# Altium schematic symbol library Sensor_Pressure.SchLib: 24 symbols
Pins are listed as number, name and electrical type; pins without a type are passive.

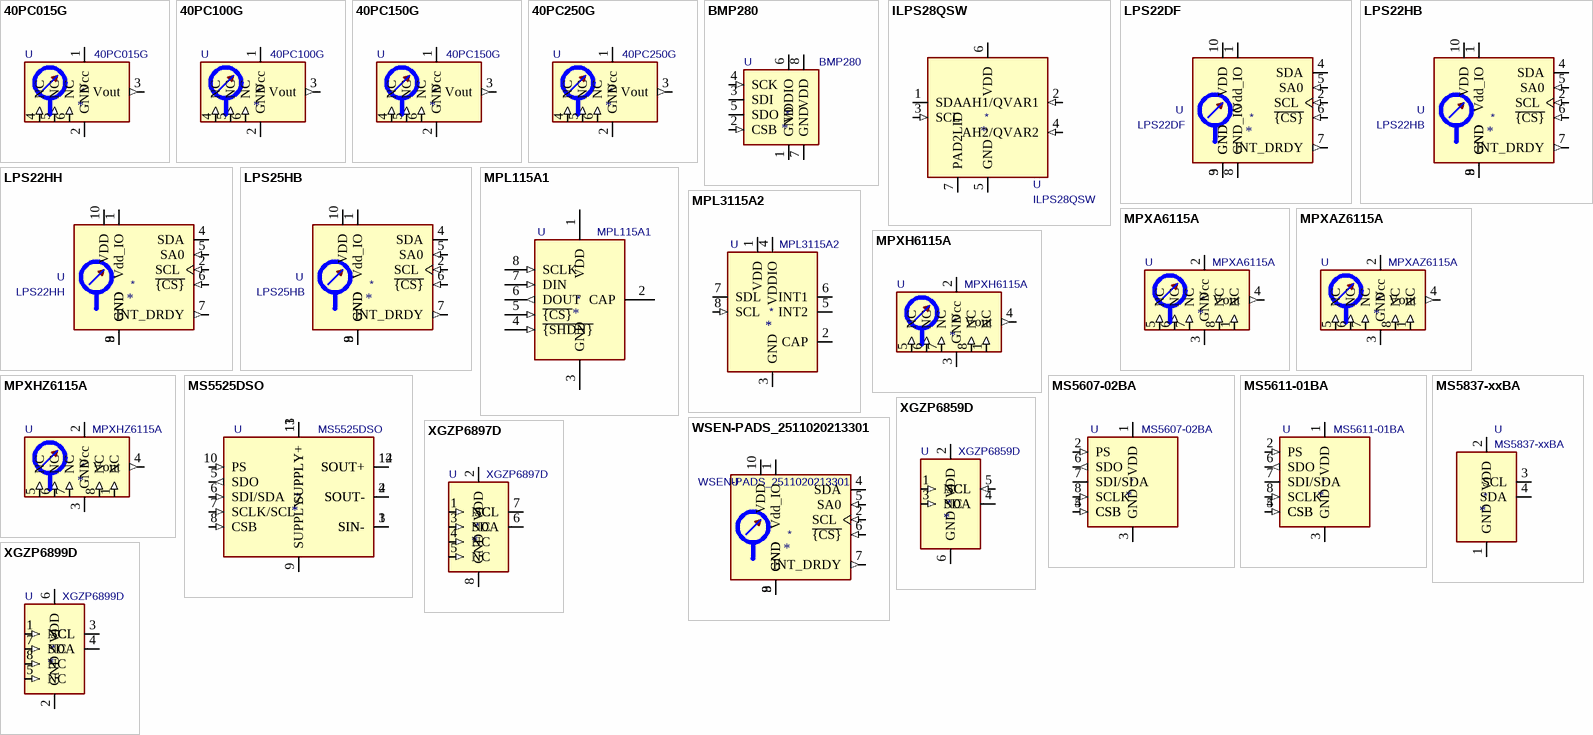
[diagram p0: symbols 40PC015G to XGZP6899D]

## 40PC015G
designator *  value 40PC015G  Reference: U
Gauge pressure sensor, 0 to 15PSI, 5V supply, 0.2% accuracy, integrated signal conditioning, excellent media compatibility; ki_keywords: gage gauge pressure sensor; Datasheet: http://www.honeywellscportal.com//index.php?ci_id=138832; Description_: Gauge pressure sensor, 0 to 15PSI, 5V supply, 0.2% accuracy, integrated signal conditioning, excellent media compatibility
pins: 1 Vcc (power), 2 GND (power), 3 Vout (out), 4 NC (in), 5 NC (in), 6 NC (in)

## 40PC100G
designator *  value 40PC100G  Reference: U
Gauge pressure sensor, 0 to 100PSI, 5V supply, 0.2% accuracy, integrated signal conditioning, excellent media compatibility; ki_keywords: gage gauge pressure sensor; Datasheet: http://www.honeywellscportal.com//index.php?ci_id=138832; Description_: Gauge pressure sensor, 0 to 100PSI, 5V supply, 0.2% accuracy, integrated signal conditioning, excellent media compatibility
pins: 1 Vcc (power), 2 GND (power), 3 Vout (out), 4 NC (in), 5 NC (in), 6 NC (in)

## 40PC150G
designator *  value 40PC150G  Reference: U
Gauge pressure sensor, 0 to 150PSI, 5V supply, 0.2% accuracy, integrated signal conditioning, excellent media compatibility; ki_keywords: gage gauge pressure sensor; Datasheet: http://www.honeywellscportal.com//index.php?ci_id=138832; Description_: Gauge pressure sensor, 0 to 150PSI, 5V supply, 0.2% accuracy, integrated signal conditioning, excellent media compatibility
pins: 1 Vcc (power), 2 GND (power), 3 Vout (out), 4 NC (in), 5 NC (in), 6 NC (in)

## 40PC250G
designator *  value 40PC250G  Reference: U
Gauge pressure sensor, 0 to 250PSI, 5V supply, 0.2% accuracy, integrated signal conditioning, excellent media compatibility; ki_keywords: gage gauge pressure sensor; Datasheet: http://www.honeywellscportal.com//index.php?ci_id=138832; Description_: Gauge pressure sensor, 0 to 250PSI, 5V supply, 0.2% accuracy, integrated signal conditioning, excellent media compatibility
pins: 1 Vcc (power), 2 GND (power), 3 Vout (out), 4 NC (in), 5 NC (in), 6 NC (in)

## BMP280
designator *  value BMP280  Reference: U
Absolute Barometric Pressure Sensor, LGA-8; ki_keywords: I2C, SPI, pressure, temperature, sensor; ki_fp_filters: Bosch*LGA*2x2.5mm*P0.65mm*; Footprint: Package_LGA:Bosch_LGA-8_2x2.5mm_P0.65mm_ClockwisePinNumbering; Datasheet: https://ae-bst.resource.bosch.com/media/_tech/media/datasheets/BST-BMP280-DS001.pdf; Description_: Absolute Barometric Pressure Sensor, LGA-8
pins: 1 GND (power), 2 CSB (in), 3 SDI (io), 4 SCK (in), 5 SDO (io), 6 VDDIO (power), 7 GND (power), 8 VDD (power)

## ILPS28QSW
designator *  value ILPS28QSW  Reference: U
Dual full-scale (mode 1: 260..1260 hPa; mode 2: 260..4060 hPa), absolute digital output barometer with Qvar detection in a water-resistant package, 1.7..3.6V supply voltage, LGA-7; ki_keywords: pressure-sensor I2C MIPI-I3C; ki_fp_filters: *LGA*2.8x2.8mm*P1.15mm*; Footprint: Package_LGA:ST_CCLGA-7L_2.8x2.8mm_P1.15mm_H1.95mm; Datasheet: https://www.st.com/resource/en/datasheet/ilps28qsw.pdf; Description_: Dual full-scale (mode 1: 260..1260 hPa; mode 2: 260..4060 hPa), absolute digital output barometer with Qvar detection in a water-resistant package, 1.7..3.6V supply voltage, LGA-7
pins: 1 SDA (io), 2 AH1/QVAR1 (in), 3 SCL (in), 4 AH2/QVAR2 (in), 5 GND (power), 6 VDD (power), 7 PAD2LID

## LPS22DF
designator *  value LPS22DF  Reference: U
MEMS absolute pressure sensor, 260-1260 hPa, 1-200Hz ODR, 24bit, I2C/I3C/SPI interface, 2x2mm ST_HLGA-10L; ki_keywords: digital barometer; ki_fp_filters: ST?HLGA*2x2mm*P0.5mm*LayoutBorder3x2y*; Footprint: Package_LGA:ST_HLGA-10_2x2mm_P0.5mm_LayoutBorder3x2y; Datasheet: https://www.st.com/resource/en/datasheet/lps22df.pdf; Description_: MEMS absolute pressure sensor, 260-1260 hPa, 1-200Hz ODR, 24bit, I2C/I3C/SPI interface, 2x2mm ST_HLGA-10L
pins: 1 Vdd_IO (power), 2 SCL (in), 3 GND, 4 SDA (io), 5 SA0 (in), 6 ~{{CS}} (in), 7 INT_DRDY (out), 8 GND_IO (power), 9 GND (power), 10 VDD (power)

## LPS22HB
designator *  value LPS22HB  Reference: U
MEMS nano pressure sensor, 260-1260 hPa, absolute digital output baromeeter, 24 bit, SPI, I2C, 0.0075 hPa noise rms, ST_HLGA-10L; ki_keywords: mems absolute baromeeter spi i2c pressure; ki_fp_filters: ST?HLGA*2x2mm*P0.5mm*LayoutBorder3x2y*; Footprint: Package_LGA:ST_HLGA-10_2x2mm_P0.5mm_LayoutBorder3x2y; Datasheet: https://www.st.com/resource/en/datasheet/lps22hb.pdf; Description_: MEMS nano pressure sensor, 260-1260 hPa, absolute digital output baromeeter, 24 bit, SPI, I2C, 0.0075 hPa noise rms, ST_HLGA-10L
pins: 1 Vdd_IO (power), 2 SCL (in), 3 GND, 4 SDA (io), 5 SA0 (in), 6 ~{{CS}} (in), 7 INT_DRDY (out), 8 GND (power), 9 GND, 10 VDD (power)

## LPS22HH
designator *  value LPS22HH  Reference: U
MEMS nano pressure sensor, 260-1260 hPa, absolute digital output baromeeter, 24 bit, SPI, I2C, I3C, 0.65 Pa noise rms, ST_HLGA-10L; ki_keywords: mems absolute baromeeter spi i2c i3c pressure; ki_fp_filters: ST?HLGA*2x2mm*P0.5mm*LayoutBorder3x2y*; Footprint: Package_LGA:ST_HLGA-10_2x2mm_P0.5mm_LayoutBorder3x2y; Datasheet: https://www.st.com/resource/en/datasheet/lps22hh.pdf; Description_: MEMS nano pressure sensor, 260-1260 hPa, absolute digital output baromeeter, 24 bit, SPI, I2C, I3C, 0.65 Pa noise rms, ST_HLGA-10L
pins: 1 Vdd_IO (power), 2 SCL (in), 3 GND, 4 SDA (io), 5 SA0 (in), 6 ~{{CS}} (in), 7 INT_DRDY (out), 8 GND (power), 9 GND, 10 VDD (power)

## LPS25HB
designator *  value LPS25HB  Reference: U
MEMS nano pressure sensor, 260-1260 hPa, absolute digital output baromeeter, 24 bit, SPI, I2C, 0.01 hPa noise rms, ST_HLGA-10L; ki_keywords: mems absolute baromeeter spi i2c pressure; ki_fp_filters: ST?HLGA*2.5x2.5mm*P0.6mm*LayoutBorder3x2y*; Footprint: Package_LGA:ST_HLGA-10_2.5x2.5mm_P0.6mm_LayoutBorder3x2y; Datasheet: https://www.st.com/resource/en/datasheet/lps25hb.pdf; Description_: MEMS nano pressure sensor, 260-1260 hPa, absolute digital output baromeeter, 24 bit, SPI, I2C, 0.01 hPa noise rms, ST_HLGA-10L
pins: 1 Vdd_IO (power), 2 SCL (in), 3 GND, 4 SDA (io), 5 SA0 (in), 6 ~{{CS}} (in), 7 INT_DRDY (out), 8 GND (power), 9 GND, 10 VDD (power)

## MPL115A1
designator *  value MPL115A1  Reference: U
SPI Digital Barometer; ki_keywords: spi barometer thermometer mems; ki_fp_filters: NXP*LGA*3x5mm*P1.25mm*H1.2mm*; Footprint: Package_LGA:NXP_LGA-8_3x5mm_P1.25mm_H1.2mm; Datasheet: https://www.nxp.com/docs/en/data-sheet/MPL115A1.pdf; Description_: SPI Digital Barometer
pins: 1 VDD (power), 2 CAP, 3 GND (power), 4 ~{{SHDN}} (in), 5 ~{{CS}} (in), 6 DOUT (out), 7 DIN (in), 8 SCLK (in)

## MPL3115A2
designator *  value MPL3115A2  Reference: U
I2C precision pressure sensor with altimetry, LGA-8; ki_keywords: pressure sensor altimetry; ki_fp_filters: NXP*LGA*3x5mm*P1.25mm*H1.1mm*; Footprint: Package_LGA:NXP_LGA-8_3x5mm_P1.25mm_H1.1mm; Datasheet: https://www.nxp.com/docs/en/data-sheet/MPL3115A2.pdf; Description_: I2C precision pressure sensor with altimetry, LGA-8
pins: 1 VDD (power), 2 CAP, 3 GND (power), 4 VDDIO (power), 5 INT2 (oc), 6 INT1 (oc), 7 SDL (io), 8 SCL (in)

## MPXA6115A
designator *  value MPXA6115A  Reference: U
Absolute pressure sensor, 15 to 115kPa, analog output, integrated signal conditioning, temperature compensated, SO package; Datasheet: https://www.nxp.com/docs/en/data-sheet/MPXA6115A.pdf; Description_: Absolute pressure sensor, 15 to 115kPa, analog output, integrated signal conditioning, temperature compensated, SO package; ki_keywords: absolute pressure sensor
pins: 1 NC (in), 2 Vcc (power), 3 GND (power), 4 Vout (out), 5 NC (in), 6 NC (in), 7 NC (in), 8 NC (in)

## MPXAZ6115A
designator *  value MPXAZ6115A  Reference: U
Absolute pressure sensor, 15 to 115kPa, analog output, integrated signal conditioning, temperature compensated, media resistant gel, SO package; Datasheet: https://www.nxp.com/docs/en/data-sheet/MPXA6115A.pdf; Description_: Absolute pressure sensor, 15 to 115kPa, analog output, integrated signal conditioning, temperature compensated, media resistant gel, SO package; ki_keywords: absolute pressure sensor
pins: 1 NC (in), 2 Vcc (power), 3 GND (power), 4 Vout (out), 5 NC (in), 6 NC (in), 7 NC (in), 8 NC (in)

## MPXH6115A
designator *  value MPXH6115A  Reference: U
Absolute pressure sensor, 15 to 115kPa, analog output, integrated signal conditioning, temperature compensated, SSO package; Datasheet: https://www.nxp.com/docs/en/data-sheet/MPXA6115A.pdf; Description_: Absolute pressure sensor, 15 to 115kPa, analog output, integrated signal conditioning, temperature compensated, SSO package; ki_keywords: absolute pressure sensor
pins: 1 NC (in), 2 Vcc (power), 3 GND (power), 4 Vout (out), 5 NC (in), 6 NC (in), 7 NC (in), 8 NC (in)

## MPXHZ6115A
designator *  value MPXHZ6115A  Reference: U
Absolute pressure sensor, 15 to 115kPa, analog output, integrated signal conditioning, temperature compensated, media resistant gel, SSO package; Datasheet: https://www.nxp.com/docs/en/data-sheet/MPXA6115A.pdf; Description_: Absolute pressure sensor, 15 to 115kPa, analog output, integrated signal conditioning, temperature compensated, media resistant gel, SSO package; ki_keywords: absolute pressure sensor
pins: 1 NC (in), 2 Vcc (power), 3 GND (power), 4 Vout (out), 5 NC (in), 6 NC (in), 7 NC (in), 8 NC (in)

## MS5525DSO
designator *  value MS5525DSO  Reference: U
Integrated Digital Pressure Sensor; ki_keywords: 24bit low-power I2C SPI; ki_fp_filters: TE?MS5525DSO*DB* TE?MS5525DSO*SB* TE?MS5525DSO*ST* TE?MS5525DSO*DH* TE?MS5525DSO*FT* TE?MS5525DSO*FB*; Datasheet: https://www.te.com/commerce/DocumentDelivery/DDEController?Action=srchrtrv&DocNm=MS5525DSO&DocType=DS&DocLang=English; Description_: Integrated Digital Pressure Sensor
pins: 1 SIN-, 2 SOUT-, 3 SIN-, 4 SOUT-, 5 SDO (out), 6 SDI/SDA (in), 7 SCLK/SCL (in), 8 CSB (in), 9 SUPPLY- (power), 10 PS (in), 11 SUPPLY+, 12 SOUT+, 13 SUPPLY+ (power), 14 SOUT+

## MS5607-02BA
designator *  value MS5607-02BA  Reference: U
Barometric pressure sensor, 20cm resolution, 10 to 1200 mbar, I2C and SPI interface up to 20MHz, LGA-8; ki_keywords: pressure SPI I2C; ki_fp_filters: LGA*3x5mm*P1.25mm*; Footprint: Package_LGA:LGA-8_3x5mm_P1.25mm; Datasheet: https://www.te.com/commerce/DocumentDelivery/DDEController?Action=showdoc&DocId=Data+Sheet%7FMS5607-02BA03%7FB2%7Fpdf%7FEnglish%7FENG_DS_MS5607-02BA03_B2.pdf%7FCAT-BLPS0035; Description_: Barometric pressure sensor, 20cm resolution, 10 to 1200 mbar, I2C and SPI interface up to 20MHz, LGA-8
pins: 1 VDD (power), 2 PS (in), 3 GND (power), 4 CSB (in), 5 CSB (in), 6 SDO (out), 7 SDI/SDA (io), 8 SCLK (in)

## MS5611-01BA
designator *  value MS5611-01BA  Reference: U
Barometric pressure sensor, 10cm resolution, 10 to 1200 mbar, I2C and SPI interface up to 20MHz, LGA-8; ki_keywords: pressure SPI I2C; ki_fp_filters: LGA*3x5mm*P1.25mm*; Footprint: Package_LGA:LGA-8_3x5mm_P1.25mm; Datasheet: https://www.te.com/commerce/DocumentDelivery/DDEController?Action=srchrtrv&DocNm=MS5611-01BA03&DocType=Data+Sheet&DocLang=English; Description_: Barometric pressure sensor, 10cm resolution, 10 to 1200 mbar, I2C and SPI interface up to 20MHz, LGA-8
pins: 1 VDD (power), 2 PS (in), 3 GND (power), 4 CSB (in), 5 CSB (in), 6 SDO (out), 7 SDI/SDA (io), 8 SCLK (in)

## MS5837-xxBA
designator *  value MS5837-xxBA  Reference: U
Ultra-small, gel-filled, pressure sensor with stainless steel cap; ki_fp_filters: TE_MS5837*BA*; Footprint: Sensor_Pressure:TE_MS5837-xxBA; Datasheet: https://www.te.com/commerce/DocumentDelivery/DDEController?Action=showdoc&DocId=Data+Sheet%7FMS5837-30BA%7FB1%7Fpdf%7FEnglish%7FENG_DS_MS5837-30BA_B1.pdf%7FCAT-BLPS0017; Description_: Ultra-small, gel-filled, pressure sensor with stainless steel cap; ki_keywords: pressure sensor
pins: 1 GND (power), 2 VDD (power), 3 SCL, 4 SDA (io)

## WSEN-PADS_2511020213301
designator *  value WSEN-PADS_2511020213301  Reference: U
MEMS nano pressure sensor, 260-1260 hPa, absolute digital output baromeeter, 24 bit, SPI, I2C, 0.75 Pa noise rms, ST_HLGA-10L; ki_keywords: mems absolute baromeeter; ki_fp_filters: ST?HLGA*2x2mm*P0.5mm*LayoutBorder3x2y*; Footprint: Package_LGA:ST_HLGA-10_2x2mm_P0.5mm_LayoutBorder3x2y; Datasheet: https://www.we-online.com/components/products/manual/2511020213301_WSEN-PADS%202511020213301%20Manual_rev2.2.pdf; Description_: MEMS nano pressure sensor, 260-1260 hPa, absolute digital output baromeeter, 24 bit, SPI, I2C, 0.75 Pa noise rms, ST_HLGA-10L
pins: 1 Vdd_IO (power), 2 SCL (in), 3 GND, 4 SDA (io), 5 SA0 (in), 6 ~{{CS}} (in), 7 INT_DRDY (out), 8 GND (power), 9 GND, 10 VDD (power)

## XGZP6859D
designator *  value XGZP6859D  Reference: U
I2C pressure sensor, 24-bit, 2.5..5.5V supply; ki_keywords: cfsensor sencoch; ki_fp_filters: *CFSensor?XGZP6859*; Footprint: Sensor_Pressure:CFSensor_XGZP6859D_7x7mm; Datasheet: https://cfsensor.com/wp-content/uploads/2025/02/XGZP6859D-Pressure-Sensor-V2.8.pdf; Description_: I2C pressure sensor, 24-bit, 2.5..5.5V supply
pins: 1 NC (in), 2 VDD (power), 3 NC (in), 4 SDA (io), 5 SCL (in), 6 GND (power)

## XGZP6897D
designator *  value XGZP6897D  Reference: U
i2c differential digital, 2.5Vdc-5.5Vdc; ki_keywords: differential i2c; ki_fp_filters: *CFSensor?XGZP6897*; Footprint: Sensor_Pressure:CFSensor_XGZP6897x; Datasheet: https://cfsensor.com/wp-content/uploads/2022/11/XGZP6897D-Pressure-Sensor-V2.7.pdf; Description_: i2c differential digital, 2.5Vdc-5.5Vdc
pins: 1 NC (in), 2 VDD (power), 3 NC (in), 4 NC (in), 5 NC (in), 6 SDA (io), 7 SCL, 8 GND (power)

## XGZP6899D
designator *  value XGZP6899D  Reference: U
i2c differential digital, 2.5Vdc-5.5Vdc; ki_keywords: differential i2c; ki_fp_filters: *CFSensor?XGZP6899*; Footprint: Sensor_Pressure:CFSensor_XGZP6899x; Datasheet: https://cfsensor.com/wp-content/uploads/2022/11/XGZP6899D-Pressure-Sensor-V2.8.pdf; Description_: i2c differential digital, 2.5Vdc-5.5Vdc
pins: 1 NC (in), 2 GND (power), 3 SCL, 4 SDA (io), 5 NC (in), 6 VDD (power), 7 NC (in), 8 NC (in)